# EAGLE library part SSW-103-22-F-D-VS (library con_samtec2)
http://www.samtec.com/documents/webfiles/deutsche_version/SSWSM_D.PDF
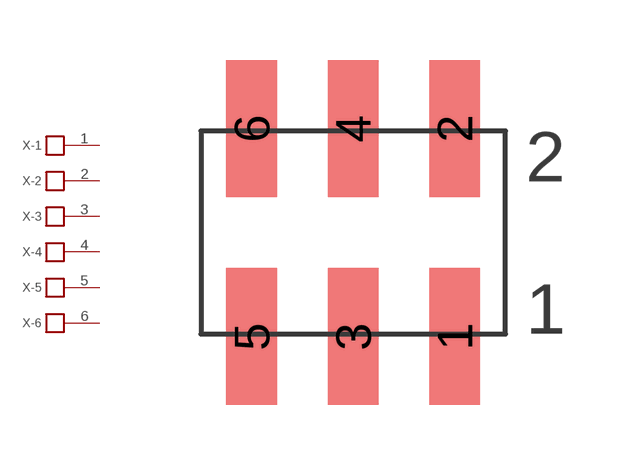
[diagram p2: symbol with the pads of SSW_03X2; footprint SSW_03X2]

Designator prefix X; gates -3=PIN-1 -2=PIN-1 -1=PIN-1 -4=PIN-1 -5=PIN-1 -6=PIN-1

## SSW-103-22-F-D-VS  [SSW_03X2]
1  -1:P$1
2  -2:P$1
3  -3:P$1
4  -4:P$1
5  -5:P$1
6  -6:P$1

## Footprint SSW_03X2 (pad centres in mm)
http://www.samtec.com/documents/webfiles/cpdf/SSW-DVS.PDF
smd 1.27 x 3.429: 1 2.54,-2.603; 2 2.54,2.603; 3 0,-2.603; 4 0,2.603; 5 -2.54,-2.603; 6 -2.54,2.603